# Altium footprint library TB6612FNG.PcbLib: 1 footprints
Each footprint in its own frame and in the unit in brackets; x right, y up, seen from the top. Pads: shape width x height; smd on the part's side, far side on the other; paste and mask are expansions set on the pad; w line width, h text height; cw(c..) or ccw(c..) is an arc to the next point about the centre after c.
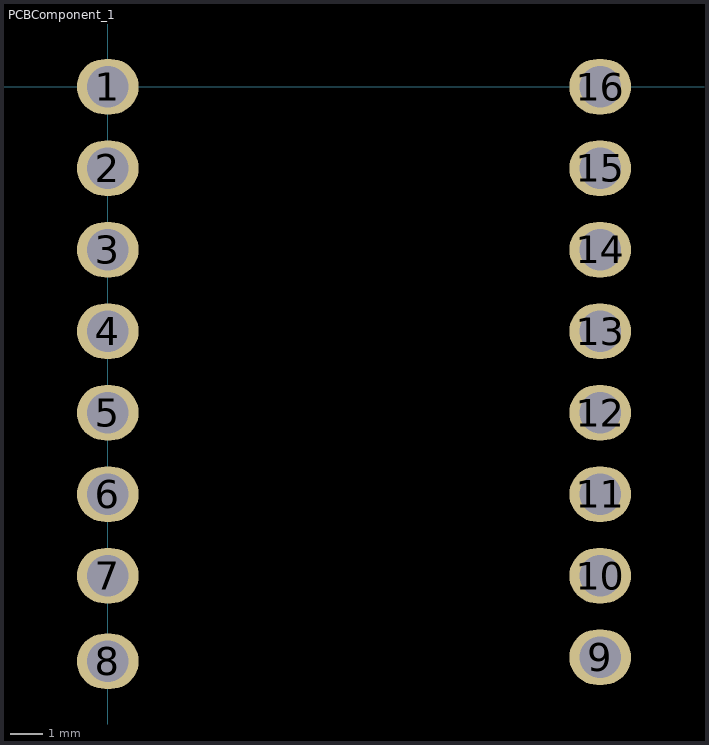
[diagram p0: the footprint, top view; thin cyan lines are the x and y axes]

## PCBComponent_1 [mm]
pads (16):
  oval 1.924x1.724 hole 1.299: 1(0,0) 2(0,-2.54) 3(0,-5.08) 4(0,-7.62) 5(0,-10.16) 6(0,-12.7) 7(0,-15.24) 8(0,-17.907) 9(15.34,-17.78) 10(15.34,-15.24) 11(15.34,-12.7) 12(15.34,-10.16) 13(15.34,-7.62) 14(15.34,-5.08) 15(15.34,-2.54) 16(15.34,0)
3D body "ROB-14450--3DModel-STEP-418109.STEP": height 3.01, standoff -8.49, extent -2.413,-19.177 17.907,1.143